# Altium footprint library Microchip Power Management Line Regulator.PcbLib: 82 footprints (part 2 of 6)
Each footprint in its own frame and in the unit in brackets; x right, y up, seen from the top. Pads: shape width x height; smd on the part's side, far side on the other; paste and mask are expansions set on the pad; w line width, h text height; cw(c..) or ccw(c..) is an arc to the next point about the centre after c.
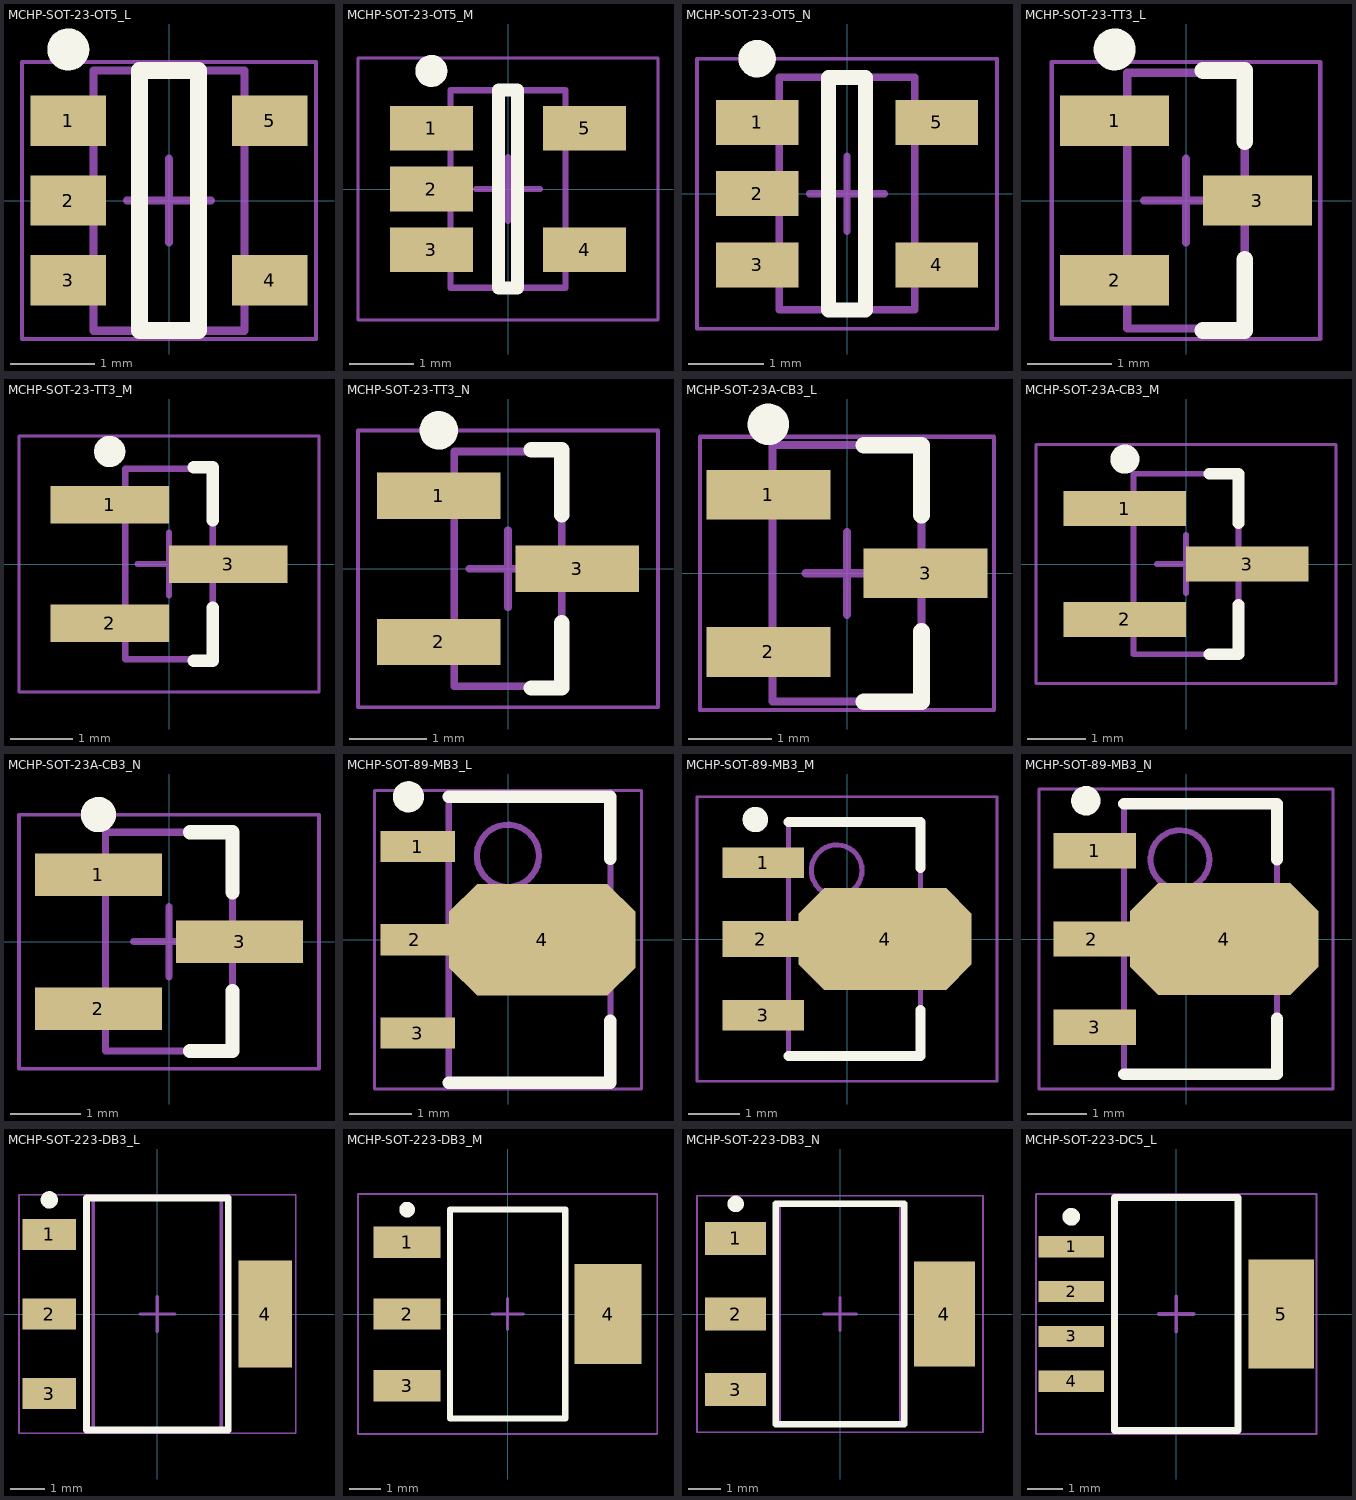
[diagram p1: the footprints below, top view; thin cyan lines are the x and y axes]

## MCHP-SOT-23-OT5_L [mm] "SOT23, 5-Leads, Body 2.9x1.55mm, Pitch 0.95mm, IPC High Density"
height 1.45
pads (5):
  rect 0.9x0.6 smd: 1(-1.2,0.95) 2(-1.2,0) 3(-1.2,-0.95) 4(1.2,-0.95) 5(1.2,0.95)
Top Overlay:
  circle w0.25: c-1.2,1.8 r0.125
  lines w0.2: -0.35,-1.55 -0.35,1.55 0.35,1.55 0.35,-1.55 -0.35,-1.55
Mechanical 13:
  lines w0.1: -0.9,-1.55 0.9,-1.55 0.9,1.55 -0.9,1.55 -0.9,-1.55
Mechanical 15:
  lines w0.05: -1.75,-1.65 1.75,-1.65 1.75,1.65 -1.75,1.65 -1.75,-1.65
  lines w0.1: -0.5,0 0.5,0 ; 0,-0.5 0,0.5
3D body "User Library-SOT23-5-2.step": height 1.45, standoff 0, extent -1.374,-1.45 1.425,1.45

## MCHP-SOT-23-OT5_M [mm] "SOT23, 5-Leads, Body 2.9x1.55mm, Pitch 0.95mm, IPC Low Density"
height 1.45
pads (5):
  rect 1.3x0.7 smd: 1(-1.2,0.95) 2(-1.2,0) 3(-1.2,-0.95) 4(1.2,-0.95) 5(1.2,0.95)
Top Overlay:
  circle w0.25: c-1.2,1.85 r0.125
  lines w0.2: -0.15,-1.55 0.15,-1.55 0.15,1.55 -0.15,1.55 -0.15,-1.55
Mechanical 13:
  lines w0.1: -0.9,-1.55 -0.9,1.55 0.9,1.55 0.9,-1.55 -0.9,-1.55
Mechanical 15:
  lines w0.05: -2.35,-2.05 -2.35,2.05 2.35,2.05 2.35,-2.05 -2.35,-2.05
  lines w0.1: -0.5,0 0.5,0 ; 0,-0.5 0,0.5
3D body "User Library-SOT23-5-2.step": height 1.45, standoff 0, extent -1.4,-1.45 1.4,1.45

## MCHP-SOT-23-OT5_N [mm] "SOT23, 5-Leads, Body 2.9x1.55mm, Pitch 0.95mm, IPC Medium Density"
height 1.45
pads (5):
  rect 1.1x0.6 smd: 1(-1.2,0.95) 2(-1.2,0) 3(-1.2,-0.95) 4(1.2,-0.95) 5(1.2,0.95)
Top Overlay:
  circle w0.25: c-1.2,1.8 r0.125
  lines w0.2: -0.25,-1.55 0.25,-1.55 0.25,1.55 -0.25,1.55 -0.25,-1.55
Mechanical 13:
  lines w0.1: -0.9,-1.55 -0.9,1.55 0.9,1.55 0.9,-1.55 -0.9,-1.55
Mechanical 15:
  lines w0.05: -2,-1.8 -2,1.8 2,1.8 2,-1.8 -2,-1.8
  lines w0.1: -0.5,0 0.5,0 ; 0,-0.5 0,0.5
3D body "User Library-SOT23-5-2.step": height 1.45, standoff 0, extent -1.374,-1.45 1.425,1.45

## MCHP-SOT-23-TT3_L [mm] "SOT23, 3-Leads, Body 2.86x1.28mm, Pitch 0.95mm, IPC High Density"
height 1.12
pads (3):
  rect 1.3x0.6 smd: 1(-0.85,0.95) 2(-0.85,-0.95) 3(0.85,0)
Top Overlay:
  circle w0.25: c-0.85,1.8 r0.125
  lines w0.2: 0.2,-1.55 0.7,-1.55 0.7,-0.7 ; 0.2,1.55 0.7,1.55 0.7,0.7
Mechanical 13:
  lines w0.1: -0.7,-1.525 0.7,-1.525 0.7,1.525 -0.7,1.525 -0.7,-1.525
Mechanical 15:
  lines w0.05: -1.6,-1.65 1.6,-1.65 1.6,1.65 -1.6,1.65 -1.6,-1.65
  lines w0.1: -0.5,0 0.5,0 ; 0,-0.5 0,0.5
3D body "User Library-SOT23-3.step": height 1.3, standoff 0, extent -1.4,-1.45 1.4,1.45

## MCHP-SOT-23-TT3_M [mm] "SOT23, 3-Leads, Body 2.86x1.28mm, Pitch 0.95mm, IPC Low Density"
height 1.12
pads (3):
  rect 1.9x0.6 smd: 1(-0.95,0.95) 2(-0.95,-0.95) 3(0.95,0)
Top Overlay:
  circle w0.25: c-0.95,1.8 r0.125
  lines w0.2: 0.4,-1.55 0.7,-1.55 0.7,-0.7 ; 0.4,1.55 0.7,1.55 0.7,0.7
Mechanical 13:
  lines w0.1: -0.7,-1.525 0.7,-1.525 0.7,1.525 -0.7,1.525 -0.7,-1.525
Mechanical 15:
  lines w0.05: -2.4,-2.05 2.4,-2.05 2.4,2.05 -2.4,2.05 -2.4,-2.05
  lines w0.1: -0.5,0 0.5,0 ; 0,-0.5 0,0.5
3D body "User Library-SOT23-3.step": height 1.3, standoff 0, extent -1.4,-1.45 1.4,1.45

## MCHP-SOT-23-TT3_N [mm] "SOT23, 3-Leads, Body 2.86x1.28mm, Pitch 0.95mm, IPC Medium Density"
height 1.12
pads (3):
  rect 1.6x0.6 smd: 1(-0.9,0.95) 2(-0.9,-0.95) 3(0.9,0)
Top Overlay:
  circle w0.25: c-0.9,1.8 r0.125
  lines w0.2: 0.3,-1.55 0.7,-1.55 0.7,-0.7 ; 0.3,1.55 0.7,1.55 0.7,0.7
Mechanical 13:
  lines w0.1: -0.7,-1.525 -0.7,1.525 0.7,1.525 0.7,-1.525 -0.7,-1.525
Mechanical 15:
  lines w0.05: -1.95,-1.8 -1.95,1.8 1.95,1.8 1.95,-1.8 -1.95,-1.8
  lines w0.1: -0.5,0 0.5,0 ; 0,-0.5 0,0.5
3D body "User Library-SOT23-3.step": height 1.3, standoff 0, extent -1.349,-1.45 1.451,1.45

## MCHP-SOT-23A-CB3_L [mm] "SOT23, 3-Leads, Body 2.9x1.5mm, Pitch 0.95mm, IPC High Density"
height 1.45
pads (3):
  rect 1.5x0.6 smd: 1(-0.95,0.95) 2(-0.95,-0.95) 3(0.95,0)
Top Overlay:
  circle w0.25: c-0.95,1.8 r0.125
  lines w0.2: 0.2,-1.55 0.9,-1.55 0.9,-0.7 ; 0.2,1.55 0.9,1.55 0.9,0.7
Mechanical 13:
  lines w0.1: -0.9,-1.55 -0.9,1.55 0.9,1.55 0.9,-1.55 -0.9,-1.55
Mechanical 15:
  lines w0.05: -1.775,-1.65 -1.775,1.65 1.775,1.65 1.775,-1.65 -1.775,-1.65
  lines w0.1: -0.5,0 0.5,0 ; 0,-0.5 0,0.5
3D body: height 1.45, standoff 0, extent -0.9,-1.55 0.9,1.55

## MCHP-SOT-23A-CB3_M [mm] "SOT23, 3-Leads, Body 2.9x1.5mm, Pitch 0.95mm, IPC Low Density"
height 1.45
pads (3):
  rect 2.1x0.6 smd: 1(-1.05,0.95) 2(-1.05,-0.95) 3(1.05,0)
Top Overlay:
  circle w0.25: c-1.05,1.8 r0.125
  lines w0.2: 0.4,-1.55 0.9,-1.55 0.9,-0.7 ; 0.4,1.55 0.9,1.55 0.9,0.7
Mechanical 13:
  lines w0.1: -0.9,-1.55 0.9,-1.55 0.9,1.55 -0.9,1.55 -0.9,-1.55
Mechanical 15:
  lines w0.05: -2.575,-2.05 2.575,-2.05 2.575,2.05 -2.575,2.05 -2.575,-2.05
  lines w0.1: -0.5,0 0.5,0 ; 0,-0.5 0,0.5
3D body: height 1.45, standoff 0, extent -0.9,-1.55 0.9,1.55

## MCHP-SOT-23A-CB3_N [mm] "SOT23, 3-Leads, Body 2.9x1.5mm, Pitch 0.95mm, IPC Medium Density"
height 1.45
pads (3):
  rect 1.8x0.6 smd: 1(-1,0.95) 2(-1,-0.95) 3(1,0)
Top Overlay:
  circle w0.25: c-1,1.8 r0.125
  lines w0.2: 0.3,-1.55 0.9,-1.55 0.9,-0.7 ; 0.3,1.55 0.9,1.55 0.9,0.7
Mechanical 13:
  lines w0.1: -0.9,-1.55 0.9,-1.55 0.9,1.55 -0.9,1.55 -0.9,-1.55
Mechanical 15:
  lines w0.05: -2.125,-1.8 2.125,-1.8 2.125,1.8 -2.125,1.8 -2.125,-1.8
  lines w0.1: -0.5,0 0.5,0 ; 0,-0.5 0,0.5
3D body: height 1.45, standoff 0, extent -0.9,-1.55 0.9,1.55

## MCHP-SOT-89-MB3_L [mm] "SOT89, 3-Leads, Body 4.5x2.45mm, Pitch 1.5mm, IPC High Density"
height 1.6
pads (4):
  rect 1.2x0.5 smd: 1(-1.45,1.5) 3(-1.45,-1.5)
  rect 1.1x0.5 smd: 2(-1.5,0)
  oct 3x1.8 smd: 4(0.55,0)
Top Overlay:
  circle w0.25: c-1.603,2.3 r0.125
  lines w0.2: -0.953,-2.3 1.647,-2.3 1.647,-1.3 ; -0.953,2.3 1.647,2.3 1.647,1.3
Mechanical 13:
  circle w0.1: c-0.002,1.35 r0.5
  lines w0.1: -0.953,-2.3 1.647,-2.3 1.647,2.3 -0.953,2.3 -0.953,-2.3
Mechanical 15:
  lines w0.05: -2.15,-2.4 2.15,-2.4 2.15,2.4 -2.15,2.4 -2.15,-2.4
  lines w0.1: -0.153,0 0.847,0 ; 0.347,-0.5 0.347,0.5
3D body "User Library-SOT89-3.STEP": height 1.54, standoff 0, extent -1.97,-2.25 2.28,2.25

## MCHP-SOT-89-MB3_M [mm] "SOT89, 3-Leads, Body 4.5x2.45mm, Pitch 1.5mm, IPC Low Density"
height 1.6
pads (4):
  rect 1.6x0.6 smd: 1(-1.65,1.5) 3(-1.65,-1.5)
  rect 1.5x0.7 smd: 2(-1.7,0)
  oct 3.4x2 smd: 4(0.75,0)
Top Overlay:
  circle w0.25: c-1.803,2.35 r0.125
  lines w0.2: -1.152,-2.3 1.448,-2.3 1.448,-1.4 ; -1.152,2.3 1.448,2.3 1.448,1.4
Mechanical 13:
  circle w0.1: c-0.202,1.35 r0.5
  lines w0.1: -1.152,-2.3 1.448,-2.3 1.448,2.3 -1.152,2.3 -1.152,-2.3
Mechanical 15:
  lines w0.05: -2.95,-2.8 2.95,-2.8 2.95,2.8 -2.95,2.8 -2.95,-2.8
  lines w0.1: -0.353,0 0.647,0 ; 0.148,-0.5 0.148,0.5
3D body "User Library-SOT89-3.STEP": height 1.54, standoff 0, extent -2.174,-2.25 2.076,2.25

## MCHP-SOT-89-MB3_N [mm] "SOT89, 3-Leads, Body 4.5x2.45mm, Pitch 1.5mm, IPC Medium Density"
height 1.6
pads (4):
  rect 1.4x0.6 smd: 1(-1.55,1.5) 3(-1.55,-1.5)
  rect 1.3x0.6 smd: 2(-1.6,0)
  oct 3.2x1.9 smd: 4(0.65,0)
Top Overlay:
  circle w0.25: c-1.703,2.35 r0.125
  lines w0.2: -1.052,-2.3 1.548,-2.3 1.548,-1.35 ; -1.052,2.3 1.548,2.3 1.548,1.35
Mechanical 13:
  circle w0.1: c-0.102,1.35 r0.5
  lines w0.1: -1.052,-2.3 -1.052,2.3 1.548,2.3 1.548,-2.3 -1.052,-2.3
Mechanical 15:
  lines w0.05: -2.5,-2.55 -2.5,2.55 2.5,2.55 2.5,-2.55 -2.5,-2.55
  lines w0.1: -0.253,0 0.747,0 ; 0.248,-0.5 0.248,0.5
3D body "User Library-SOT89-3.STEP": height 1.54, standoff 0, extent -2.123,-2.25 2.127,2.25

## MCHP-SOT-223-DB3_L [mm] "SOT223, 3-Leads, Body 6.5x3.5mm, Pitch 2.3mm, IPC High Density"
height 1.8
pads (4):
  rect 1.55x0.9 smd: 1(-3.125,2.3) 2(-3.125,0) 3(-3.125,-2.3)
  rect 1.55x3.1 smd: 4(3.125,0)
Top Overlay:
  circle w0.25: c-3.125,3.3 r0.125
  lines w0.2: -2.05,-3.35 2.05,-3.35 2.05,3.35 -2.05,3.35 -2.05,-3.35
Mechanical 13:
  lines w0.1: -1.85,-3.35 1.85,-3.35 1.85,3.35 -1.85,3.35 -1.85,-3.35
Mechanical 15:
  lines w0.05: -4,-3.45 4,-3.45 4,3.45 -4,3.45 -4,-3.45
  lines w0.1: -0.5,0 0.5,0 ; 0,-0.5 0,0.5
3D body "User Library-SOT-223-1.step": height 1.61, standoff -0.04, extent -3.526,-3.25 3.474,3.25

## MCHP-SOT-223-DB3_M [mm] "SOT223, 3-Leads, Body 6.5x3.5mm, Pitch 2.3mm, IPC Low Density"
height 1.8
pads (4):
  rect 2.15x1 smd: 1(-3.225,2.3) 2(-3.225,0) 3(-3.225,-2.3)
  rect 2.15x3.2 smd: 4(3.225,0)
Top Overlay:
  circle w0.25: c-3.225,3.35 r0.125
  lines w0.2: -1.85,-3.35 -1.85,3.35 1.85,3.35 1.85,-3.35 -1.85,-3.35
Mechanical 13:
  lines w0.1: -1.85,-3.35 -1.85,3.35 1.85,3.35 1.85,-3.35 -1.85,-3.35
Mechanical 15:
  lines w0.05: -4.8,-3.85 -4.8,3.85 4.8,3.85 4.8,-3.85 -4.8,-3.85
  lines w0.1: -0.5,0 0.5,0 ; 0,-0.5 0,0.5
3D body "User Library-SOT-223-1.step": height 1.61, standoff -0.04, extent -3.475,-3.224 3.525,3.275

## MCHP-SOT-223-DB3_N [mm] "SOT223, 3-Leads, Body 6.5x3.5mm, Pitch 2.3mm, IPC Medium Density"
height 1.8
pads (4):
  rect 1.85x1 smd: 1(-3.175,2.3) 2(-3.175,0) 3(-3.175,-2.3)
  rect 1.85x3.2 smd: 4(3.175,0)
Top Overlay:
  circle w0.25: c-3.175,3.35 r0.125
  lines w0.2: -1.95,-3.35 1.95,-3.35 1.95,3.35 -1.95,3.35 -1.95,-3.35
Mechanical 13:
  lines w0.1: -1.85,-3.35 1.85,-3.35 1.85,3.35 -1.85,3.35 -1.85,-3.35
Mechanical 15:
  lines w0.05: -4.35,-3.6 4.35,-3.6 4.35,3.6 -4.35,3.6 -4.35,-3.6
  lines w0.1: -0.5,0 0.5,0 ; 0,-0.5 0,0.5
3D body "User Library-SOT-223-1.step": height 1.61, standoff -0.04, extent -3.5,-3.225 3.5,3.275

## MCHP-SOT-223-DC5_L [mm] "SOT-223, 5-Leads, Body 6.5x3.5mm, Pitch 1.27mm, IPC High Density"
height 1.8
pads (5):
  rect 1.85x0.6 smd: 1(-2.975,1.905) 2(-2.975,0.635) 3(-2.975,-0.635) 4(-2.975,-1.905)
  rect 1.85x3.1 smd: 5(2.975,0)
Top Overlay:
  circle w0.25: c-2.975,2.755 r0.125
  lines w0.2: -1.75,-3.3 1.75,-3.3 1.75,3.3 -1.75,3.3 -1.75,-3.3
Mechanical 13:
  lines w0.1: -1.775,-3.275 1.775,-3.275 1.775,3.275 -1.775,3.275 -1.775,-3.275
Mechanical 15:
  lines w0.05: -3.975,-3.4 3.975,-3.4 3.975,3.4 -3.975,3.4 -3.975,-3.4
  lines w0.1: -0.5,0 0.5,0 ; 0,-0.5 0,0.5